# Altium schematic symbol library wifi_ic.SchLib: 11 symbols
Pins are listed as number, name and electrical type; pins without a type are passive.

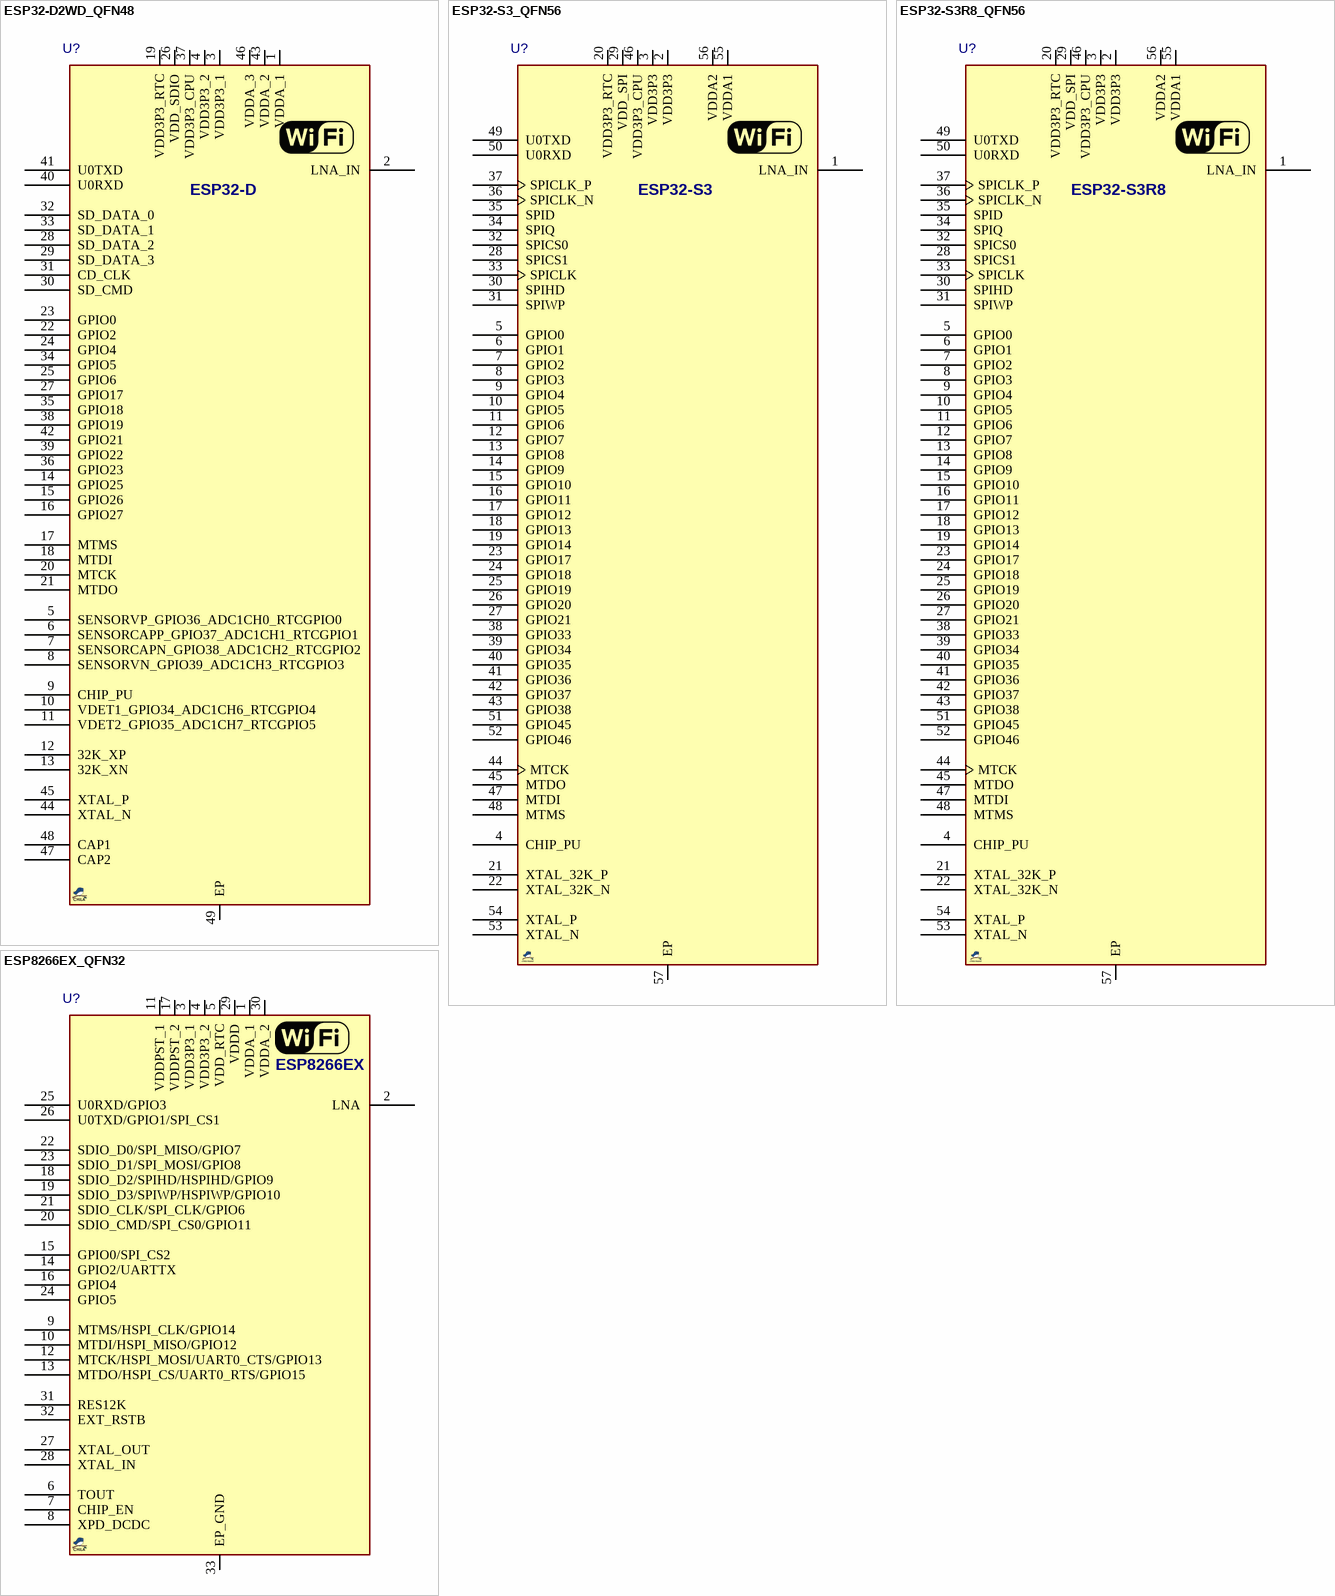
[diagram p0: symbols ESP32-D2WD_QFN48 to ESP8266EX_QFN32]

## ESP32-D2WD_QFN48
designator U?, comment ESP32-D2WD  (value not drawn)
ESP32-D2WD wifi IC; MANF: Espressif Systems; PARAM2: 2.3~3.6v, 1.8~3.6v; MANF_P#: ESP32-D2WD; PRICE: 3$; VALUE: ESP32-D2WD; PACKAGE: QFN-48
footprint QFN35_48T_5X5 (QFN, 0.35mm pitch, 5x5mm)
pins: 1 VDDA_1, 2 LNA_IN, 3 VDD3P3_1, 4 VDD3P3_2, 5 SENSORVP_GPIO36_ADC1CH0_RTCGPIO0, 6 SENSORCAPP_GPIO37_ADC1CH1_RTCGPIO1, 7 SENSORCAPN_GPIO38_ADC1CH2_RTCGPIO2, 8 SENSORVN_GPIO39_ADC1CH3_RTCGPIO3, 9 CHIP_PU, 10 VDET1_GPIO34_ADC1CH6_RTCGPIO4, 11 VDET2_GPIO35_ADC1CH7_RTCGPIO5, 12 32K_XP, 13 32K_XN, 14 GPIO25, 15 GPIO26, 16 GPIO27, 17 MTMS, 18 MTDI, 19 VDD3P3_RTC, 20 MTCK, 21 MTDO, 22 GPIO2, 23 GPIO0, 24 GPIO4, 25 GPIO6, 26 VDD_SDIO, 27 GPIO17, 28 SD_DATA_2, 29 SD_DATA_3, 30 SD_CMD, 31 CD_CLK, 32 SD_DATA_0, 33 SD_DATA_1, 34 GPIO5, 35 GPIO18, 36 GPIO23, 37 VDD3P3_CPU, 38 GPIO19, 39 GPIO22, 40 U0RXD, 41 U0TXD, 42 GPIO21, 43 VDDA_2, 44 XTAL_N, 45 XTAL_P, 46 VDDA_3, 47 CAP2, 48 CAP1, 49 EP
text: ESP32-D

## ESP32-S3_QFN56
designator U?, comment ESP32-S3  (value not drawn)
ESP32-S3 wifi IC; MANF: Espressif Systems; PARAM2: 2.3~3.6v, 1.8~3.6v; MANF_P#: ESP32-S3; PRICE: 3$; VALUE: ESP32-S3; PACKAGE: QFN-56
footprint QFN40_56T (QFN-56 7*7,  pitch: 0.4mm, 7x7x0.8mm)
pins: 1 LNA_IN, 2 VDD3P3, 3 VDD3P3, 4 CHIP_PU, 5 GPIO0, 6 GPIO1, 7 GPIO2, 8 GPIO3, 9 GPIO4, 10 GPIO5, 11 GPIO6, 12 GPIO7, 13 GPIO8, 14 GPIO9, 15 GPIO10, 16 GPIO11, 17 GPIO12, 18 GPIO13, 19 GPIO14, 20 VDD3P3_RTC, 21 XTAL_32K_P, 22 XTAL_32K_N, 23 GPIO17, 24 GPIO18, 25 GPIO19, 26 GPIO20, 27 GPIO21, 28 SPICS1, 29 VDD_SPI, 30 SPIHD, 31 SPIWP, 32 SPICS0, 33 SPICLK, 34 SPIQ, 35 SPID, 36 SPICLK_N, 37 SPICLK_P, 38 GPIO33, 39 GPIO34, 40 GPIO35, 41 GPIO36, 42 GPIO37, 43 GPIO38, 44 MTCK, 45 MTDO, 46 VDD3P3_CPU, 47 MTDI, 48 MTMS, 49 U0TXD, 50 U0RXD, 51 GPIO45, 52 GPIO46, 53 XTAL_N, 54 XTAL_P, 55 VDDA1, 56 VDDA2, 57 EP

## ESP32-S3R8_QFN56
designator U?, comment ESP32-S3  (value not drawn)
ESP32-S3 wifi IC with 8MB octal SPI RAM; MANF: Espressif Systems; MANF_P#: ESP32-S3R8; PARAM2: 2.3~3.6v, 1.8~3.6v; PRICE: 3$; VALUE: ESP32-S3; PACKAGE: QFN-56
footprint QFN40_56T (QFN-56 7*7,  pitch: 0.4mm, 7x7x0.8mm)
pins: 1 LNA_IN, 2 VDD3P3, 3 VDD3P3, 4 CHIP_PU, 5 GPIO0, 6 GPIO1, 7 GPIO2, 8 GPIO3, 9 GPIO4, 10 GPIO5, 11 GPIO6, 12 GPIO7, 13 GPIO8, 14 GPIO9, 15 GPIO10, 16 GPIO11, 17 GPIO12, 18 GPIO13, 19 GPIO14, 20 VDD3P3_RTC, 21 XTAL_32K_P, 22 XTAL_32K_N, 23 GPIO17, 24 GPIO18, 25 GPIO19, 26 GPIO20, 27 GPIO21, 28 SPICS1, 29 VDD_SPI, 30 SPIHD, 31 SPIWP, 32 SPICS0, 33 SPICLK, 34 SPIQ, 35 SPID, 36 SPICLK_N, 37 SPICLK_P, 38 GPIO33, 39 GPIO34, 40 GPIO35, 41 GPIO36, 42 GPIO37, 43 GPIO38, 44 MTCK, 45 MTDO, 46 VDD3P3_CPU, 47 MTDI, 48 MTMS, 49 U0TXD, 50 U0RXD, 51 GPIO45, 52 GPIO46, 53 XTAL_N, 54 XTAL_P, 55 VDDA1, 56 VDDA2, 57 EP

## ESP8266EX_QFN32
designator U?, comment ESP8266EX  (value not drawn)
ESP8266EX, RF SoC; MANF: Espressif Systems; PARAM2: 2.5~3.6v, 1.8~3.6v; MANF_P#: ESP8266EX; PRICE: 1.6$; VALUE: ESP8266EX; PACKAGE: QFN-32
footprint QFN50_32T (QFN-32, RGJ, 5X5mm, 0.5mm)
pins: 1 VDDA_1, 2 LNA, 3 VDD3P3_1, 4 VDD3P3_2, 5 VDD_RTC, 6 TOUT, 7 CHIP_EN, 8 XPD_DCDC, 9 MTMS/HSPI_CLK/GPIO14, 10 MTDI/HSPI_MISO/GPIO12, 11 VDDPST_1, 12 MTCK/HSPI_MOSI/UART0_CTS/GPIO13, 13 MTDO/HSPI_CS/UART0_RTS/GPIO15, 14 GPIO2/UARTTX, 15 GPIO0/SPI_CS2, 16 GPIO4, 17 VDDPST_2, 18 SDIO_D2/SPIHD/HSPIHD/GPIO9, 19 SDIO_D3/SPIWP/HSPIWP/GPIO10, 20 SDIO_CMD/SPI_CS0/GPIO11, 21 SDIO_CLK/SPI_CLK/GPIO6, 22 SDIO_D0/SPI_MISO/GPIO7, 23 SDIO_D1/SPI_MOSI/GPIO8, 24 GPIO5, 25 U0RXD/GPIO3, 26 U0TXD/GPIO1/SPI_CS1, 27 XTAL_OUT, 28 XTAL_IN, 29 VDDD, 30 VDDA_2, 31 RES12K, 32 EXT_RSTB, 33 EP_GND

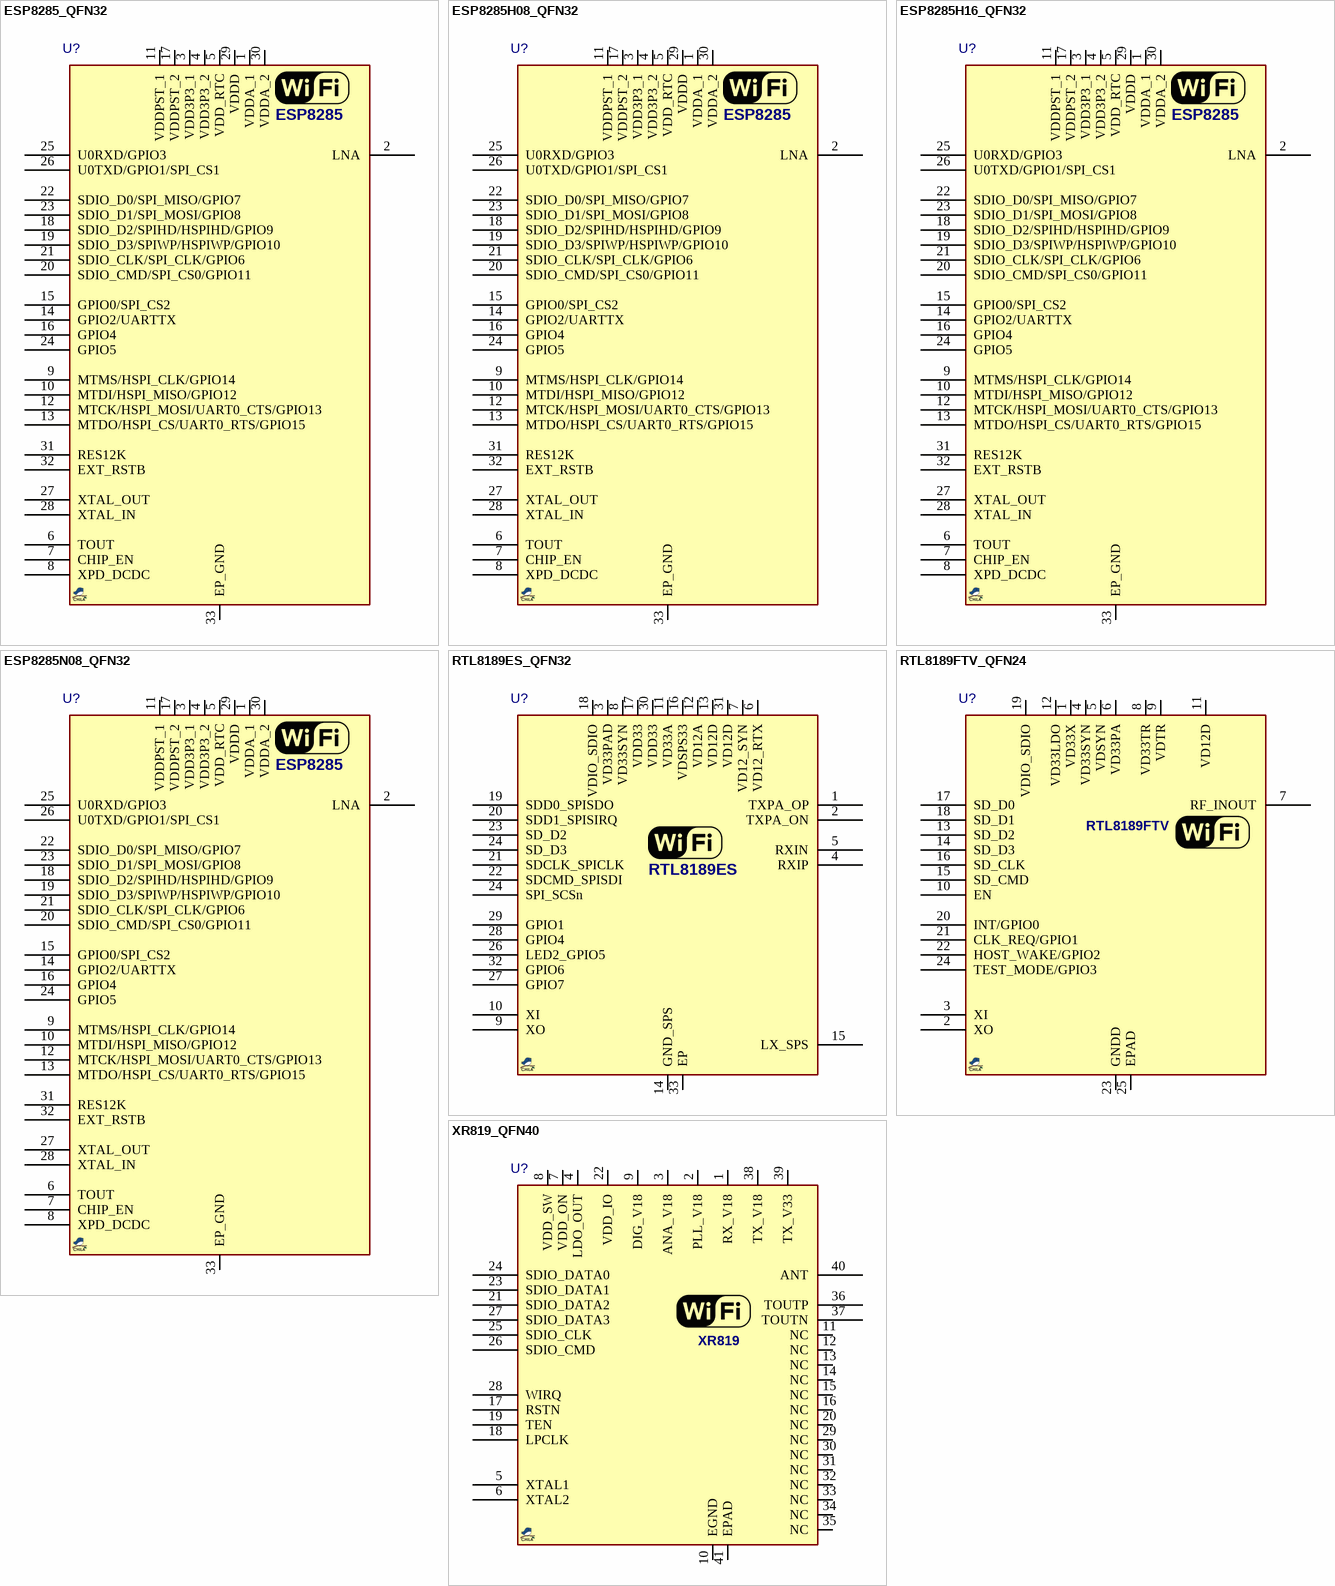
[diagram p1: symbols ESP8285_QFN32 to XR819_QFN40]

## ESP8285_QFN32
designator U?, comment ESP8285  (value not drawn)
ESP8285, RF SoC, 54 Mbps; MANF: Espressif Systems; PARAM2: 3.3Vcc, 1.8~3.3Vio; PARAM: 1MB SPI flash, -40+125oC; MANF_P#: ESP8285; PRICE: 1$; VALUE: ESP8285; PACKAGE: QFN-32
footprint QFN50_32T (QFN-32, RGJ, 5X5mm, 0.5mm)
pins: 1 VDDA_1, 2 LNA, 3 VDD3P3_1, 4 VDD3P3_2, 5 VDD_RTC, 6 TOUT, 7 CHIP_EN, 8 XPD_DCDC, 9 MTMS/HSPI_CLK/GPIO14, 10 MTDI/HSPI_MISO/GPIO12, 11 VDDPST_1, 12 MTCK/HSPI_MOSI/UART0_CTS/GPIO13, 13 MTDO/HSPI_CS/UART0_RTS/GPIO15, 14 GPIO2/UARTTX, 15 GPIO0/SPI_CS2, 16 GPIO4, 17 VDDPST_2, 18 SDIO_D2/SPIHD/HSPIHD/GPIO9, 19 SDIO_D3/SPIWP/HSPIWP/GPIO10, 20 SDIO_CMD/SPI_CS0/GPIO11, 21 SDIO_CLK/SPI_CLK/GPIO6, 22 SDIO_D0/SPI_MISO/GPIO7, 23 SDIO_D1/SPI_MOSI/GPIO8, 24 GPIO5, 25 U0RXD/GPIO3, 26 U0TXD/GPIO1/SPI_CS1, 27 XTAL_OUT, 28 XTAL_IN, 29 VDDD, 30 VDDA_2, 31 RES12K, 32 EXT_RSTB, 33 EP_GND

## ESP8285H08_QFN32
designator U?, comment ESP8285H08  (value not drawn)
ESP8285, RF SoC, 72.2Mbps; MANF: Espressif Systems; PARAM2: 3.3Vcc, 1.8~3.3Vio; PARAM: 1MB SPI flash, -40+105oC; MANF_P#: ESP8285H08; PRICE: 1.2$; VALUE: ESP8285H08; PACKAGE: QFN-32
footprint QFN50_32T (QFN-32, RGJ, 5X5mm, 0.5mm)
pins: 1 VDDA_1, 2 LNA, 3 VDD3P3_1, 4 VDD3P3_2, 5 VDD_RTC, 6 TOUT, 7 CHIP_EN, 8 XPD_DCDC, 9 MTMS/HSPI_CLK/GPIO14, 10 MTDI/HSPI_MISO/GPIO12, 11 VDDPST_1, 12 MTCK/HSPI_MOSI/UART0_CTS/GPIO13, 13 MTDO/HSPI_CS/UART0_RTS/GPIO15, 14 GPIO2/UARTTX, 15 GPIO0/SPI_CS2, 16 GPIO4, 17 VDDPST_2, 18 SDIO_D2/SPIHD/HSPIHD/GPIO9, 19 SDIO_D3/SPIWP/HSPIWP/GPIO10, 20 SDIO_CMD/SPI_CS0/GPIO11, 21 SDIO_CLK/SPI_CLK/GPIO6, 22 SDIO_D0/SPI_MISO/GPIO7, 23 SDIO_D1/SPI_MOSI/GPIO8, 24 GPIO5, 25 U0RXD/GPIO3, 26 U0TXD/GPIO1/SPI_CS1, 27 XTAL_OUT, 28 XTAL_IN, 29 VDDD, 30 VDDA_2, 31 RES12K, 32 EXT_RSTB, 33 EP_GND
text: ESP8285

## ESP8285H16_QFN32
designator U?, comment ESP8285  (value not drawn)
ESP8285, RF SoC, 72.2Mbps; MANF: Espressif Systems; MANF_P#: ESP8285H16; PARAM2: 3.3Vcc, 1.8~3.3Vio; PARAM: 2MB SPI flash, -40+105oC; PRICE: 2$; VALUE: ESP8285; PACKAGE: QFN-32
footprint QFN50_32T (QFN-32, RGJ, 5X5mm, 0.5mm)
pins: 1 VDDA_1, 2 LNA, 3 VDD3P3_1, 4 VDD3P3_2, 5 VDD_RTC, 6 TOUT, 7 CHIP_EN, 8 XPD_DCDC, 9 MTMS/HSPI_CLK/GPIO14, 10 MTDI/HSPI_MISO/GPIO12, 11 VDDPST_1, 12 MTCK/HSPI_MOSI/UART0_CTS/GPIO13, 13 MTDO/HSPI_CS/UART0_RTS/GPIO15, 14 GPIO2/UARTTX, 15 GPIO0/SPI_CS2, 16 GPIO4, 17 VDDPST_2, 18 SDIO_D2/SPIHD/HSPIHD/GPIO9, 19 SDIO_D3/SPIWP/HSPIWP/GPIO10, 20 SDIO_CMD/SPI_CS0/GPIO11, 21 SDIO_CLK/SPI_CLK/GPIO6, 22 SDIO_D0/SPI_MISO/GPIO7, 23 SDIO_D1/SPI_MOSI/GPIO8, 24 GPIO5, 25 U0RXD/GPIO3, 26 U0TXD/GPIO1/SPI_CS1, 27 XTAL_OUT, 28 XTAL_IN, 29 VDDD, 30 VDDA_2, 31 RES12K, 32 EXT_RSTB, 33 EP_GND

## ESP8285N08_QFN32
designator U?, comment ESP8285N08  (value not drawn)
ESP8285, RF SoC, 72.2Mbps; MANF: Espressif Systems; PARAM2: 3.3Vcc, 1.8~3.3Vio; PARAM: 1MB SPI flash, -40+85oC; MANF_P#: ESP8285N08; PRICE: 1.2$; VALUE: ESP8285N08; PACKAGE: QFN-32
footprint QFN50_32T (QFN-32, RGJ, 5X5mm, 0.5mm)
pins: 1 VDDA_1, 2 LNA, 3 VDD3P3_1, 4 VDD3P3_2, 5 VDD_RTC, 6 TOUT, 7 CHIP_EN, 8 XPD_DCDC, 9 MTMS/HSPI_CLK/GPIO14, 10 MTDI/HSPI_MISO/GPIO12, 11 VDDPST_1, 12 MTCK/HSPI_MOSI/UART0_CTS/GPIO13, 13 MTDO/HSPI_CS/UART0_RTS/GPIO15, 14 GPIO2/UARTTX, 15 GPIO0/SPI_CS2, 16 GPIO4, 17 VDDPST_2, 18 SDIO_D2/SPIHD/HSPIHD/GPIO9, 19 SDIO_D3/SPIWP/HSPIWP/GPIO10, 20 SDIO_CMD/SPI_CS0/GPIO11, 21 SDIO_CLK/SPI_CLK/GPIO6, 22 SDIO_D0/SPI_MISO/GPIO7, 23 SDIO_D1/SPI_MOSI/GPIO8, 24 GPIO5, 25 U0RXD/GPIO3, 26 U0TXD/GPIO1/SPI_CS1, 27 XTAL_OUT, 28 XTAL_IN, 29 VDDD, 30 VDDA_2, 31 RES12K, 32 EXT_RSTB, 33 EP_GND
text: ESP8285

## RTL8189ES_QFN32
designator U?, comment RTL8189ES  (value not drawn)
RTL8189ES, RF SoC, SDIO, 72.2Mbps; MANF: Realtek; PARAM2: 1.2Vcore, 3.3Vcc, 1.8~3.3Vio; PARAM: SDIO, 72.2Mbps, -40+70oC; MANF_P#: RTL8189ES; PRICE: 1$; VALUE: RTL8189ES; PACKAGE: QFN-32
footprint QFN50_32T (QFN-32, RGJ, 5X5mm, 0.5mm)
pins: 1 TXPA_OP, 2 TXPA_ON, 3 VD33PAD, 4 RXIP, 5 RXIN, 6 VD12_RTX, 7 VD12_SYN, 8 VD33SYN, 9 XO, 10 XI, 11 VD33A, 12 VD12A, 13 VD12D, 14 GND_SPS, 15 LX_SPS, 16 VDSPS33, 17 VDD33, 18 VDIO_SDIO, 19 SDD0_SPISDO, 20 SDD1_SPISIRQ, 21 SDCLK_SPICLK, 22 SDCMD_SPISDI, 23 SD_D2, 24 SD_D3, 24 SPI_SCSn, 26 LED2_GPIO5, 27 GPIO7, 28 GPIO4, 29 GPIO1, 30 VDD33, 31 VD12D, 32 GPIO6, 33 EP

## RTL8189FTV_QFN24
designator U?, comment RTL8189FTV  (value not drawn)
RTL8189ES, RF SoC, SDIO, 72.2Mbps; MANF: Realtek; PARAM2: 1.2Vcore, 3.3Vcc, 1.8~3.3Vio; PARAM: SDIO, 72.2Mbps, -40+70oC; MANF_P#: RTL8189FTV; PRICE: 1$; VALUE: RTL8189FTV; PACKAGE: QFN-24
footprint QFN50_24T (RTW, RGE S-PQFP-N24 (TI), HVQFN24, 4X4mm, 0.5mm, MO-220 (JEDEC))
pins: 1 VD33X, 2 XO, 3 XI, 4 VD33SYN, 5 VDSYN, 6 VD33PA, 7 RF_INOUT, 8 VD33TR, 9 VDTR, 10 EN, 11 VD12D, 12 VD33LDO, 13 SD_D2, 14 SD_D3, 15 SD_CMD, 16 SD_CLK, 17 SD_D0, 18 SD_D1, 19 VDIO_SDIO, 20 INT/GPIO0, 21 CLK_REQ/GPIO1, 22 HOST_WAKE/GPIO2, 23 GNDD, 24 TEST_MODE/GPIO3, 25 EPAD

## XR819_QFN40
designator U?, comment RTL8189FTV  (value not drawn)
RTL8189ES, RF SoC, SDIO, 72.2Mbps; MANF: Realtek; PARAM2: 1.2Vcore, 3.3Vcc, 1.8~3.3Vio; PARAM: SDIO, 72.2Mbps, -40+70oC; MANF_P#: RTL8189FTV; PRICE: 1$; VALUE: RTL8189FTV; PACKAGE: QFN-40
footprint QFN40_40T (40 TQFN-EP (maxim), 5X5mm, 0.4mm)
pins: 1 RX_V18, 2 PLL_V18, 3 ANA_V18, 4 LDO_OUT, 5 XTAL1, 6 XTAL2, 7 VDD_ON, 8 VDD_SW, 9 DIG_V18, 10 EGND, 11 NC, 12 NC, 13 NC, 14 NC, 15 NC, 16 NC, 17 RSTN, 18 LPCLK, 19 TEN, 20 NC, 21 SDIO_DATA2, 22 VDD_IO, 23 SDIO_DATA1, 24 SDIO_DATA0, 25 SDIO_CLK, 26 SDIO_CMD, 27 SDIO_DATA3, 28 WIRQ, 29 NC, 30 NC, 31 NC, 32 NC, 33 NC, 34 NC, 35 NC, 36 TOUTP, 37 TOUTN, 38 TX_V18, 39 TX_V33, 40 ANT, 41 EPAD
text: XR819